# Altium footprint library TX4139.PcbLib: 1 footprints
Each footprint in its own frame and in the unit in brackets; x right, y up, seen from the top. Pads: shape width x height; smd on the part's side, far side on the other; paste and mask are expansions set on the pad; w line width, h text height; cw(c..) or ccw(c..) is an arc to the next point about the centre after c.
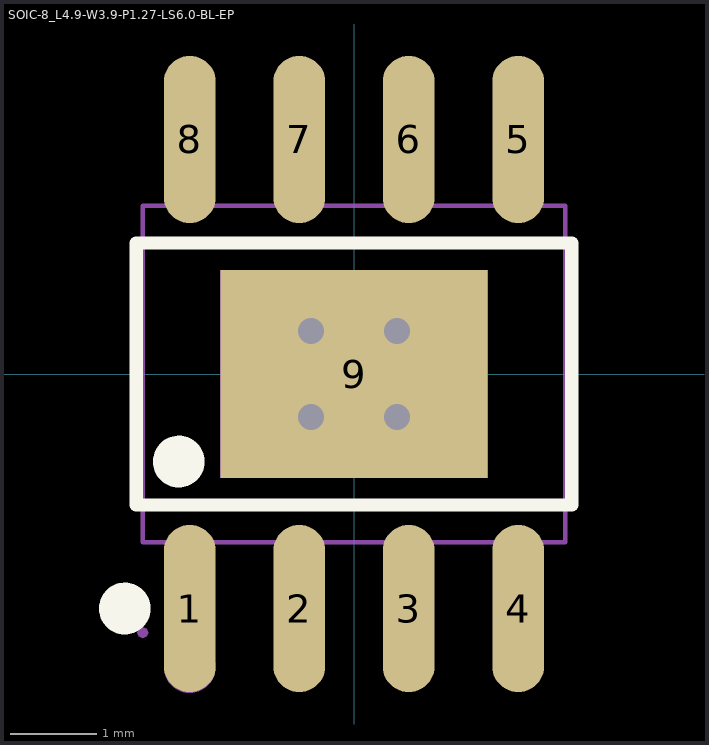
[diagram p0: the footprint, top view; thin cyan lines are the x and y axes]

## SOIC-8_L4.9-W3.9-P1.27-LS6.0-BL-EP [mm]
pads (9):
  oval 0.602x1.941 smd: 1(-1.905,-2.721) 2(-0.635,-2.721) 3(0.635,-2.721) 4(1.905,-2.721) 5(1.905,2.721) 6(0.635,2.721) 7(-0.635,2.721) 8(-1.905,2.721)
  rect 3.098x2.41 smd: 9(0,0)
via -0.5,0.5 diameter 0.61 hole 0.305
via 0.5,0.5 diameter 0.61 hole 0.305
via -0.5,-0.5 diameter 0.61 hole 0.305
via 0.5,-0.5 diameter 0.61 hole 0.305
Top Overlay:
  circle w0.3: c-2.032,-1.016 r0.15
  circle w0.3: c-2.658,-2.721 r0.15
  lines w0.152: -2.526,-1.521 -2.526,1.521 2.526,1.521 2.526,-1.521 -2.526,-1.521
Mechanical 6:
  circle w0.3: c-1.905,-3.4 r0.15
Mechanical 15:
  region: -2.386,-3 -2.404,-2.955 -2.45,-2.936 -2.496,-2.955 -2.514,-3 -2.496,-3.045 -2.45,-3.064 -2.404,-3.045
  region: -2.12,-3 -2.12,-2.35 -1.69,-2.35 -1.69,-3
  region: -2.12,-2.36 -2.12,-1.94 -1.69,-1.94 -1.69,-2.36
  region: -0.85,-3 -0.85,-2.35 -0.42,-2.35 -0.42,-3
  region: -0.85,-2.36 -0.85,-1.94 -0.42,-1.94 -0.42,-2.36
  region: 0.42,-3 0.42,-2.35 0.85,-2.35 0.85,-3
  region: 0.42,-2.36 0.42,-1.94 0.85,-1.94 0.85,-2.36
  region: 1.69,-3 1.69,-2.35 2.12,-2.35 2.12,-3
  region: 1.69,-2.36 1.69,-1.94 2.12,-1.94 2.12,-2.36
  region: -2.12,3 -2.12,2.35 -1.69,2.35 -1.69,3
  region: -2.12,2.36 -2.12,1.94 -1.69,1.94 -1.69,2.36
  region: -0.85,3 -0.85,2.35 -0.42,2.35 -0.42,3
  region: -0.85,2.36 -0.85,1.94 -0.42,1.94 -0.42,2.36
  region: 0.42,3 0.42,2.35 0.85,2.35 0.85,3
  region: 0.42,2.36 0.42,1.94 0.85,1.94 0.85,2.36
  region: 1.69,3 1.69,2.35 2.12,2.35 2.12,3
  region: 1.69,2.36 1.69,1.94 2.12,1.94 2.12,2.36
  region: -1.549,1.205 1.549,1.205 1.549,-1.205 -1.549,-1.205
  lines w0.051: -2.45,-1.95 -2.45,1.95 2.45,1.95 2.45,-1.95 -2.45,-1.95